# Altium footprint library SunflowerPCB.PcbLib: 19 footprints (part 1 of 2)
Each footprint in its own frame and in the unit in brackets; x right, y up, seen from the top. Pads: shape width x height; smd on the part's side, far side on the other; paste and mask are expansions set on the pad; w line width, h text height; cw(c..) or ccw(c..) is an arc to the next point about the centre after c.
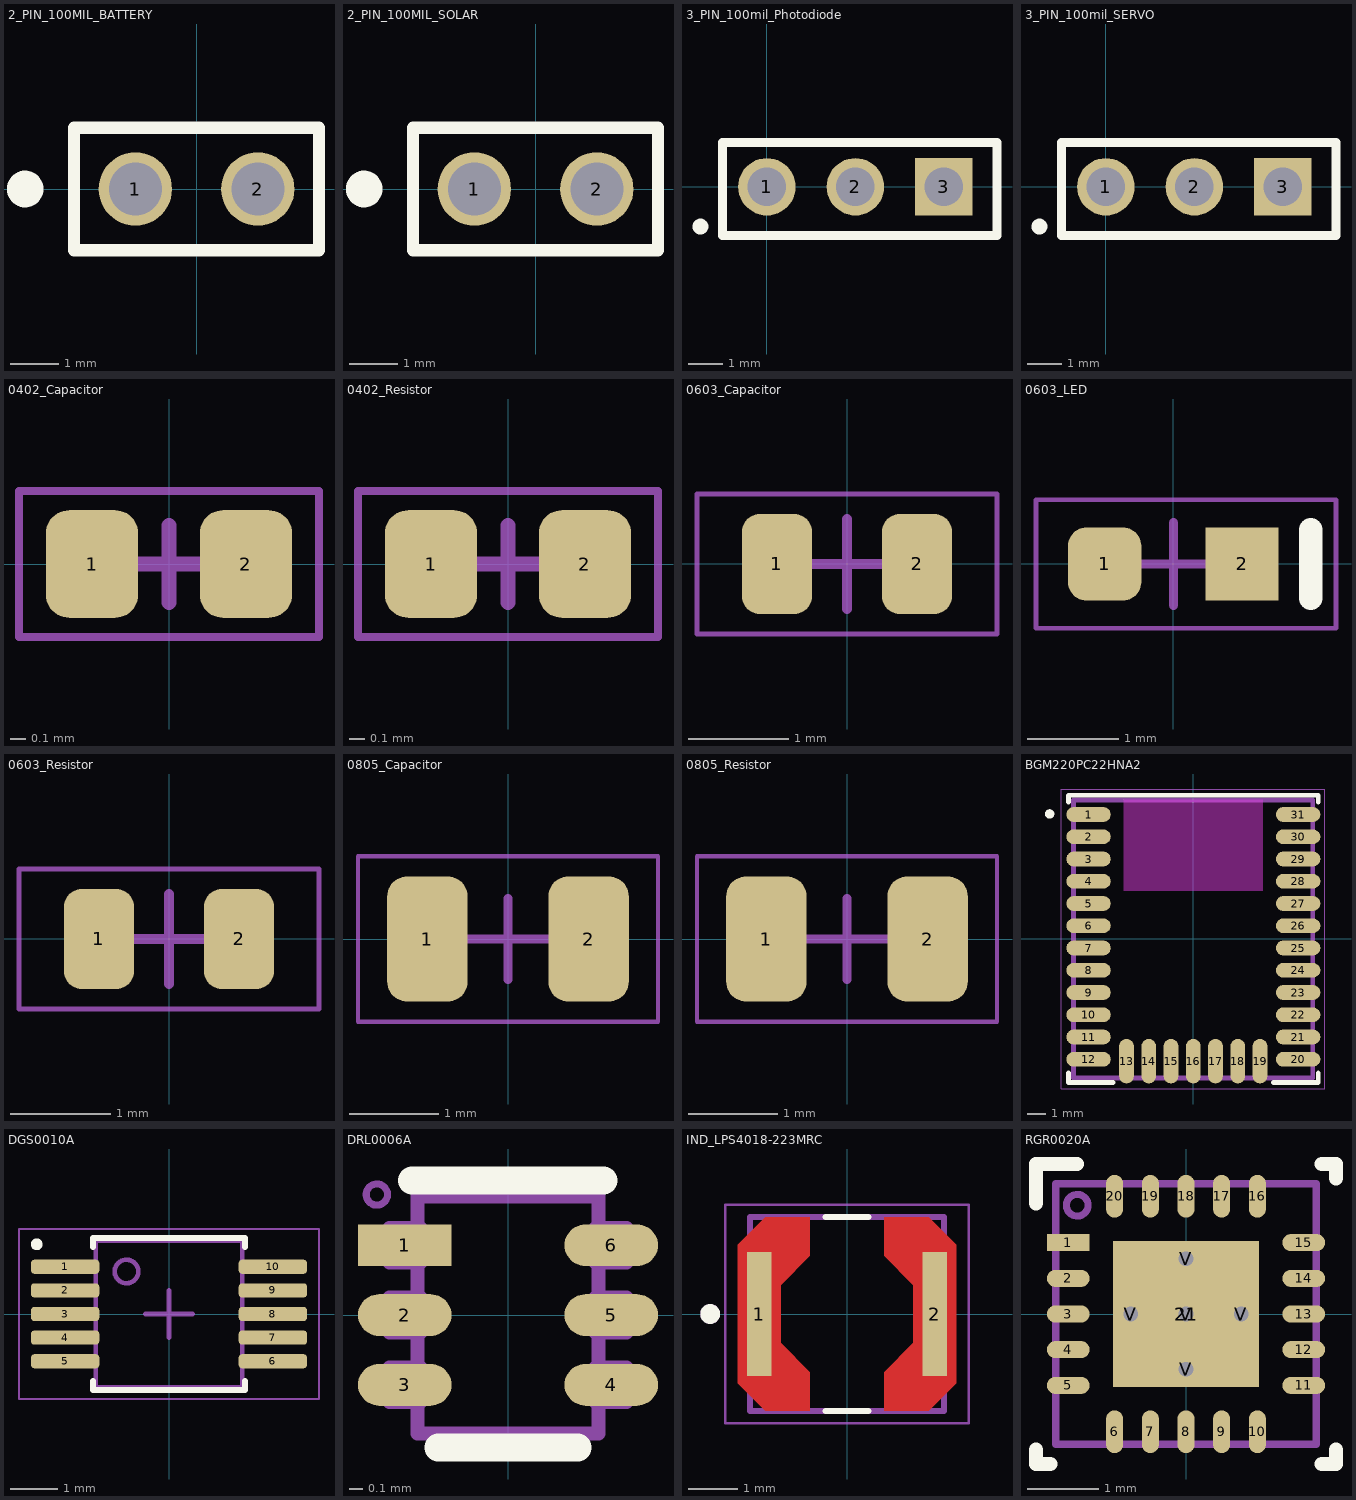
[diagram p0: the footprints below, top view; thin cyan lines are the x and y axes]

## 2_PIN_100MIL_BATTERY [mil]
pads (2):
  round 60 hole 43.31: 1(-50,0) 2(50,0)
Top Overlay:
  circle w20: c-140,0 r5
  lines w10: -100,-50 -100,0 -100,50 0,50 100,50 100,-50 0,-50 -100,-50
3D body "Header, Male, 2.54mm, 1x2.STEP": height 336.22, standoff -118.11, extent -100,-49.99 100,50.01

## 2_PIN_100MIL_SOLAR [mil]
pads (2):
  round 60 hole 43.31: 1(-50,0) 2(50,0)
Top Overlay:
  circle w20: c-140,0 r5
  lines w10: -100,-50 -100,0 -100,50 0,50 100,50 100,-50 0,-50 -100,-50
3D body "Header, Male, 2.54mm, 1x2.STEP": height 336.22, standoff -118.11, extent -100,-49.99 100,50.01

## 3_PIN_100mil_Photodiode [mm]
pads (3):
  round 1.65 hole 1.1: 1(0,0) 2(2.54,0)
  rect 1.65x1.65 hole 1.1: 3(5.08,0)
Top Overlay:
  circle w0.254: c-1.905,-1.142 r0.1
  lines w0.254: -1.27,-1.397 -1.27,1.27 6.604,1.27 6.604,-1.397 -1.27,-1.397
3D body "3Pin_PREC003SAAN-RC.STEP": height 8.38, standoff -3.05, extent -1.143,-1.27 6.477,1.27

## 3_PIN_100mil_SERVO [mm]
pads (3):
  round 1.65 hole 1.1: 1(0,0) 2(2.54,0)
  rect 1.65x1.65 hole 1.1: 3(5.08,0)
Top Overlay:
  circle w0.254: c-1.905,-1.142 r0.1
  lines w0.254: -1.27,-1.397 6.604,-1.397 6.604,1.27 -1.27,1.27 -1.27,-1.397
3D body "3Pin_PREC003SAAN-RC.STEP": height 8.38, standoff -3.05, extent -1.143,-1.27 6.477,1.27

## 0402_Capacitor [mm] "Reference: https://www.worthingtonassembly.com/perfect-0402-footprint"
pads (2):
  rrect50% 0.6x0.7 smd mask+0.066: 1(-0.5,0) 2(0.5,0)
Top 3D Body:
  text ".Designator" at -1.985,-0.104 h0.4
Top Courtyard (Mech15):
  lines w0.05: -0.975,-0.475 -0.975,0.475 0.975,0.475 0.975,-0.475 -0.975,-0.475
  lines w0.1: -0.2,0 0.2,0 ; 0,-0.25 0,0.25
3D body "Capacitor_1005.STEP": height 0.5, standoff 0, extent -0.5,-0.275 0.5,0.275

## 0402_Resistor [mm] "Reference: https://www.worthingtonassembly.com/perfect-0402-footprint"
pads (2):
  rrect50% 0.6x0.7 smd mask+0.066: 1(-0.5,0) 2(0.5,0)
Top 3D Body:
  text ".Designator" at -1.985,-0.104 h0.4
Top Courtyard (Mech15):
  lines w0.05: -0.975,-0.475 0.975,-0.475 0.975,0.475 -0.975,0.475 -0.975,-0.475
  lines w0.1: -0.2,0 0.2,0 ; 0,-0.25 0,0.25
3D body "Res_0402.STEP": height 0.4, standoff 0, extent -0.492,-0.25 0.508,0.25

## 0603_Capacitor [mm] "Reference: https://static1.squarespace.com/static/54982a02e4b02e9f5e5d9ca7/t/696fbc6031cbca68bda72a3c/1768930400402/Discrete+Component+Footprints+Rev+E.pdf"
pads (2):
  rrect50% 0.7x1 smd mask+0.1: 1(-0.7,0) 2(0.7,0)
Top 3D Body:
  text ".Designator" at -1.985,-0.104 h0.4
Top Courtyard (Mech15):
  lines w0.05: -1.5,-0.7 -1.5,0.7 1.5,0.7 1.5,-0.7 -1.5,-0.7
  lines w0.1: -0.45,0 0.45,0 ; 0,-0.45 0,0.45
3D body "0603.step": height 0.8, standoff 0, extent -0.8,-0.4 0.8,0.4

## 0603_LED [mm]
pads (2):
  rrect50% 0.8x0.8 smd: 1(-0.75,0)
  rect 0.8x0.8 smd: 2(0.75,0)
Top Overlay:
  lines w0.254: 1.5,-0.375 1.5,0.375
Top 3D Body:
  text ".Designator" at -1.985,-0.104 h0.4
Top Courtyard (Mech15):
  lines w0.05: -1.5,-0.7 -1.5,0.7 1.775,0.7 1.775,-0.7 -1.5,-0.7
  lines w0.1: -0.45,0 0.45,0 ; 0,-0.45 0,0.45
3D body "LED_0603.STEP": height 0.55, standoff 0, extent -0.837,-0.406 0.763,0.394

## 0603_Resistor [mm] "Reference: https://static1.squarespace.com/static/54982a02e4b02e9f5e5d9ca7/t/696fbc6031cbca68bda72a3c/1768930400402/Discrete+Component+Footprints+Rev+E.pdf"
pads (2):
  rrect50% 0.7x1 smd mask+0.1: 1(-0.7,0) 2(0.7,0)
Top 3D Body:
  text ".Designator" at -1.985,-0.104 h0.4
Top Courtyard (Mech15):
  lines w0.05: -1.5,-0.7 -1.5,0.7 1.5,0.7 1.5,-0.7 -1.5,-0.7
  lines w0.1: -0.45,0 0.45,0 ; 0,-0.45 0,0.45
3D body "Resistor_0603.step": height 0.45, standoff 0, extent -0.8,-0.4 0.8,0.4

## 0805_Capacitor [mm] "Reference: https://static1.squarespace.com/static/54982a02e4b02e9f5e5d9ca7/t/696fbc6031cbca68bda72a3c/1768930400402/Discrete+Component+Footprints+Rev+E.pdf"
pads (2):
  rrect50% 0.9x1.4 smd mask+0.133: 1(-0.9,0) 2(0.9,0)
Top 3D Body:
  text ".Designator" at -1.985,-0.104 h0.4
Top Courtyard (Mech15):
  lines w0.05: -1.675,-0.925 1.675,-0.925 1.675,0.925 -1.675,0.925 -1.675,-0.925
  lines w0.1: -0.45,0 0.45,0 ; 0,-0.45 0,0.45
3D body "C0805D(I).STEP": height 1.25, standoff 0, extent -1,-0.625 1,0.625

## 0805_Resistor [mm] "Reference: https://static1.squarespace.com/static/54982a02e4b02e9f5e5d9ca7/t/696fbc6031cbca68bda72a3c/1768930400402/Discrete+Component+Footprints+Rev+E.pdf"
pads (2):
  rrect50% 0.9x1.4 smd mask+0.133: 1(-0.9,0) 2(0.9,0)
Top 3D Body:
  text ".Designator" at -1.985,-0.104 h0.4
Top Courtyard (Mech15):
  lines w0.05: -1.675,-0.925 1.675,-0.925 1.675,0.925 -1.675,0.925 -1.675,-0.925
  lines w0.1: -0.45,0 0.45,0 ; 0,-0.45 0,0.45
3D body "Resistor_0805.step": height 0.5, standoff 0, extent -1,-0.625 1,0.625

## BGM220PC22HNA2 [mm] "Silicon Labs BGM220P Bluetooth LE Module, 31-Pin, LF Crystal"
height 2.2
pads (31):
  oval 2.4x0.8 smd: 1(-5.65,6.7) 2(-5.65,5.5) 3(-5.65,4.3) 4(-5.65,3.1) 5(-5.65,1.9) 6(-5.65,0.7) 7(-5.65,-0.5) 8(-5.65,-1.7) 9(-5.65,-2.9) 10(-5.65,-4.1) 11(-5.65,-5.3) 12(-5.65,-6.5) 20(5.65,-6.5) 21(5.65,-5.3) 22(5.65,-4.1) 23(5.65,-2.9) 24(5.65,-1.7) 25(5.65,-0.5) 26(5.65,0.7) 27(5.65,1.9) 28(5.65,3.1) 29(5.65,4.3) 30(5.65,5.5) 31(5.65,6.7)
  oval 0.8x2.4 smd: 13(-3.6,-6.6) 14(-2.4,-6.6) 15(-1.2,-6.6) 16(0,-6.6) 17(1.2,-6.6) 18(2.4,-6.6) 19(3.6,-6.6)
Top Overlay:
  circle w0.254: c-7.747,6.731 r0.127
  lines w0.254: -6.731,-7.239 -6.731,-7.747 -4.318,-7.747 ; -6.731,7.366 -6.731,7.747 6.731,7.747 6.731,7.366 ; 4.318,-7.747 6.731,-7.747 6.731,-7.239
  text ".Designator" at -4.98,-9.346 h1
Keep-Out Layer:
  region: -3.75,7.5 3.75,7.5 3.75,2.6 -3.75,2.6
Mechanical 1:
  lines w0.254: -6.463,-7.513 6.437,-7.513 6.437,7.487 -6.463,7.487 -6.463,-7.513
Top Courtyard:
  lines w0.05: -7.113,-8.102 7.087,-8.102 7.087,8.076 -7.113,8.076 -7.113,-8.102
3D body "BGM220PC22HNA2--3DModel-STEP-56544.STEP": height 2.4, standoff 0, extent -6.45,-7.5 6.45,7.5

## DGS0010A [mm] "VSSOP, 10-Leads, Body 3.00x3.00mm, Pitch 0.50mm, IPC Medium"
height 1.1
pads (10):
  rrect50% 1.45x0.3 smd: 1(-2.2,1) 2(-2.2,0.5) 3(-2.2,0) 4(-2.2,-0.5) 5(-2.2,-1) 6(2.2,-1) 7(2.2,-0.5) 8(2.2,0) 9(2.2,0.5) 10(2.2,1)
Top Overlay:
  circle w0.125: c-2.8,1.475 r0.062
  lines w0.127: -1.613,-1.413 -1.613,-1.613 1.613,-1.613 1.613,-1.413 ; -1.613,1.413 -1.613,1.613 1.613,1.613 1.613,1.413
  text ".Designator" at -2.286,-2.479 h1
Top Assembly:
  circle w0.1: c-0.9,0.9 r0.25
  lines w0.1: -1.55,-1.55 -1.55,1.55 1.55,1.55 1.55,-1.55 -1.55,-1.55
Top Courtyard (Mech15):
  lines w0.05: -3.175,-1.8 -3.175,1.8 3.175,1.8 3.175,-1.8 -3.175,-1.8
Top Component Center:
  lines w0.1: -0.5,0 0.5,0 ; 0,-0.5 0,0.5
3D body "VSSOP10_DGS_TEX.step": height 1.09, standoff 0, extent -2.527,-1.549 2.527,1.549

## DRL0006A [mm]
pads (6):
  rect 0.67x0.3 smd paste+0 mask+0.05: 1(-0.74,0.5)
  oval 0.67x0.3 smd paste+0 mask+0.05: 2(-0.74,0) 3(-0.74,-0.5) 4(0.74,-0.5) 5(0.74,0) 6(0.74,0.5)
Top Overlay:
  lines w0.2: -0.689,0.965 0.686,0.965 ; -0.5,-0.95 0.5,-0.95
Top 3D Body:
  circle w0.051: c-0.94,0.864 r0.076
  lines w0.1: -0.65,-0.625 -0.65,-0.85 0.65,-0.85 0.65,-0.625 ; -0.65,-0.375 -0.65,-0.125 ; -0.65,0.125 -0.65,0.375 ; -0.65,0.625 -0.65,0.85 0.65,0.85 0.65,0.625 ; 0.65,-0.375 0.65,0.375 ; -0.85,-0.625 -0.85,-0.375 -0.627,-0.375 -0.627,-0.625 -0.85,-0.625 ; -0.85,-0.125 -0.627,-0.125 -0.627,0.125 -0.85,0.125 -0.85,-0.125 ; -0.85,0.375 -0.85,0.625 -0.627,0.625 -0.627,0.375 -0.85,0.375 ; 0.627,-0.625 0.627,-0.375 0.85,-0.375 0.85,-0.625 0.627,-0.625 ; 0.627,-0.125 0.85,-0.125 0.85,0.125 0.627,0.125 0.627,-0.125 ; 0.627,0.375 0.627,0.625 0.85,0.625 0.85,0.375 0.627,0.375
  text ".Designator" at -1.27,-0.136 h0.25
3D body "DRL0006A.stp": height 0.6, standoff 0, extent -0.8,-0.783 0.8,0.783

## IND_LPS4018-223MRC [mm]
height 1.8
pads (2):
  rect 0.5x2.5 smd paste-2 mask+0: 1(-1.765,0) 2(1.765,0)
Top Layer:
  region: -0.75,1.17 -1.33,0.575 -1.33,-0.575 -0.75,-1.17 -0.75,-1.945 -1.64,-1.945 -2.2,-1.395 -2.2,1.395 -1.64,1.945 -0.75,1.945
  region: 2.2,1.395 2.2,-1.395 1.64,-1.945 0.75,-1.945 0.75,-1.17 1.33,-0.575 1.33,0.575 0.75,1.17 0.75,1.945 1.64,1.945
Top Overlay:
  circle w0.2: c-2.75,0 r0.1
  lines w0.127: -0.43,-1.95 0.43,-1.95 ; -0.43,1.95 0.43,1.95
Top Paste:
  region: -0.75,1.17 -1.33,0.575 -1.33,-0.575 -0.75,-1.17 -0.75,-1.945 -1.64,-1.945 -2.2,-1.395 -2.2,1.395 -1.64,1.945 -0.75,1.945
  region: 2.2,1.395 2.2,-1.395 1.64,-1.945 0.75,-1.945 0.75,-1.17 1.33,-0.575 1.33,0.575 0.75,1.17 0.75,1.945 1.64,1.945
Top Solder:
  region: -0.65,1.129 -1.23,0.534 -1.23,-0.534 -0.65,-1.129 -0.65,-2.045 -1.681,-2.045 -2.3,-1.437 -2.3,1.437 -1.681,2.045 -0.65,2.045
  region: 2.3,1.437 2.3,-1.437 1.681,-2.045 0.65,-2.045 0.65,-1.129 1.23,-0.534 1.23,0.534 0.65,1.129 0.65,2.045 1.681,2.045
Top 3D Body:
  circle w0.2: c-2.75,0 r0.1
  lines w0.127: -1.95,-1.95 1.95,-1.95 1.95,1.95 -1.95,1.95 -1.95,-1.95
Top Courtyard (Mech15):
  lines w0.05: -2.45,-2.2 2.45,-2.2 2.45,2.2 -2.45,2.2 -2.45,-2.2
3D body "step_temp.STEP": height 1.8, standoff 0, extent -1.95,-1.95 1.95,1.95

## RGR0020A [mm]
pads (26):
  rect 0.6x0.24 smd paste+0 mask+0.051: 1(-1.65,1)
  oval 0.6x0.24 smd paste+0 mask+0.051: 2(-1.65,0.5) 3(-1.65,0) 4(-1.65,-0.5) 5(-1.65,-1) 11(1.65,-1) 12(1.65,-0.5) 13(1.65,0) 14(1.65,0.5) 15(1.65,1)
  oval 0.24x0.6 smd paste+0 mask+0.051: 6(-1,-1.65) 7(-0.5,-1.65) 8(0,-1.65) 9(0.5,-1.65) 10(1,-1.65) 16(1,1.65) 17(0.5,1.65) 18(0,1.65) 19(-0.5,1.65) 20(-1,1.65)
  rect 2.05x2.05 smd paste-1.025 mask+0.051: 21(0,0)
  round 0.5 hole 0.203 paste-2539.97 mask+0.051: V(-0.775,0) V(0,-0.775) V(0,0) V(0,0.775) V(0.775,0)
Top Overlay:
  lines w0.2: -2.102,-1.902 -2.102,-2.102 -1.902,-2.102 ; -2.102,1.552 -2.102,2.102 -1.527,2.102 ; 1.902,-2.102 2.102,-2.102 2.102,-1.902 ; 1.902,2.102 2.102,2.102 2.102,1.902
Top Paste:
  region: 0.1,1.017 0.1,0.1 1.017,0.1 1.017,1.017
  region: -0.1,0.1 -0.1,1.017 -1.017,1.017 -1.017,0.1
  region: -0.1,-1.017 -0.1,-0.1 -1.017,-0.1 -1.017,-1.017
  region: 0.1,-0.1 0.1,-1.017 1.017,-1.017 1.017,-0.1
Top 3D Body:
  circle w0.1: c-1.524,1.524 r0.152
  lines w0.1: -1.825,-1.825 -1.825,1.825 1.825,1.825 1.825,-1.825 -1.825,-1.825
  text ".Designator" at -3.809,-0.178 h0.76
3D body "RGR0020A.stp": height 1, standoff 0, extent -1.75,-1.75 1.75,1.75